# Altium footprint library APGF1012GBRC07.PcbLib: 1 footprints
Each footprint in its own frame and in the unit in brackets; x right, y up, seen from the top. Pads: shape width x height; smd on the part's side, far side on the other; paste and mask are expansions set on the pad; w line width, h text height; cw(c..) or ccw(c..) is an arc to the next point about the centre after c.
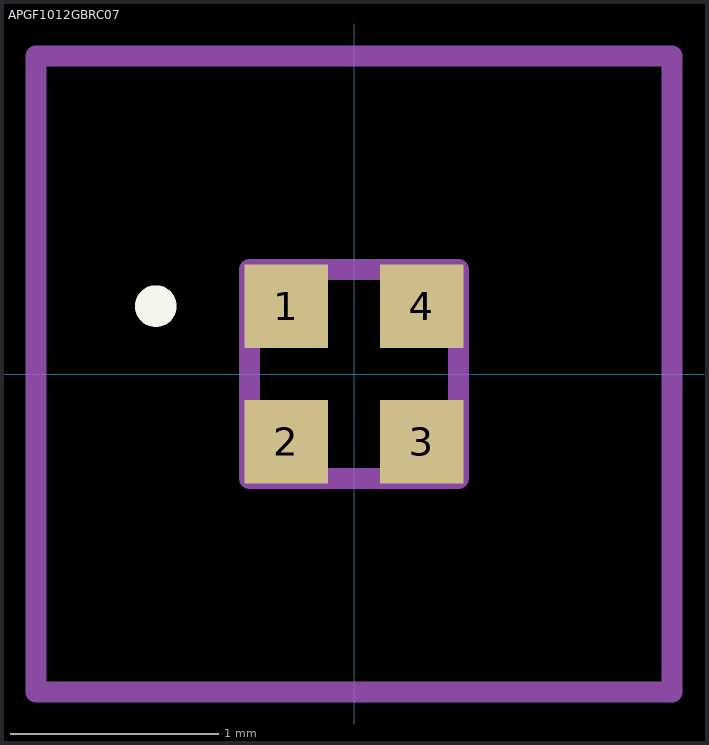
[diagram p0: the footprint, top view; thin cyan lines are the x and y axes]

## APGF1012GBRC07 [mm]
pads (4):
  rect 0.4x0.4 smd: 1(-0.325,0.325) 2(-0.325,-0.325) 3(0.325,-0.325) 4(0.325,0.325)
Top Overlay:
  lines w0.1: -1,0.325 -1,0.325 ; -1,0.325 ccw(c-0.95,0.325) -0.9,0.325 ; -1,0.325 cw(c-0.95,0.325) -0.9,0.325 ; -0.9,0.325 -0.9,0.325
Mechanical 15:
  lines w0.1: -0.5,-0.5 0.5,-0.5 0.5,0.5 -0.5,0.5 -0.5,-0.5
Mechanical 20:
  lines w0.1: -1.525,-1.525 1.525,-1.525 1.525,1.525 -1.525,1.525 -1.525,-1.525